# EAGLE library part PCA9547PW (library PCA9547PW)
IC, 8-channel I2C-bus multiplexer with reset, 16TSSOP
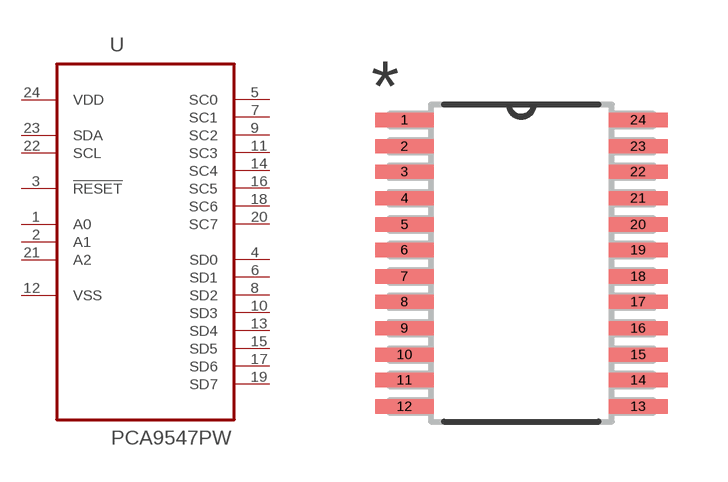
[diagram p0: symbol with the pads of SOP65P640X110-24N; footprint SOP65P640X110-24N]

Designator prefix U

## PCA9547PW (MPN: PCA9547PW; OC_FARNELL: 2212121; OC_NEWARK: 55W4321; PACKAGE: TSSOP-24; SUPPLIER: NXP)  [SOP65P640X110-24N]
1  A0  in
2  A1  in
3  !RESET  in
4  SD0  out
5  SC0  out
6  SD1  out
7  SC1  out
8  SD2  out
9  SC2  out
10  SD3  out
11  SC3  out
12  VSS  pas
13  SD4  out
14  SC4  out
15  SD5  out
16  SC5  out
17  SD6  out
18  SC6  out
19  SD7  out
20  SC7  out
21  A2  in
22  SCL  in
23  SDA
24  VDD  pwr

## Footprint SOP65P640X110-24N (pad centres in mm)
smd 1.473 x 0.356: 1 -2.921,3.581; 2 -2.921,2.921; 3 -2.921,2.286; 4 -2.921,1.626; 5 -2.921,0.965; 6 -2.921,0.33; 7 -2.921,-0.33; 8 -2.921,-0.965; 9 -2.921,-1.626; 10 -2.921,-2.286; 11 -2.921,-2.921; 12 -2.921,-3.581; 13 2.921,-3.581; 14 2.921,-2.921; 15 2.921,-2.286; 16 2.921,-1.626; 17 2.921,-0.965; 18 2.921,-0.33; 19 2.921,0.33; 20 2.921,0.965; 21 2.921,1.626; 22 2.921,2.286; 23 2.921,2.921; 24 2.921,3.581